# Altium integrated library Analog Devices Data Converters Digital-to-Analog Converters.IntLib: 2231 symbols (part 56 of 181)
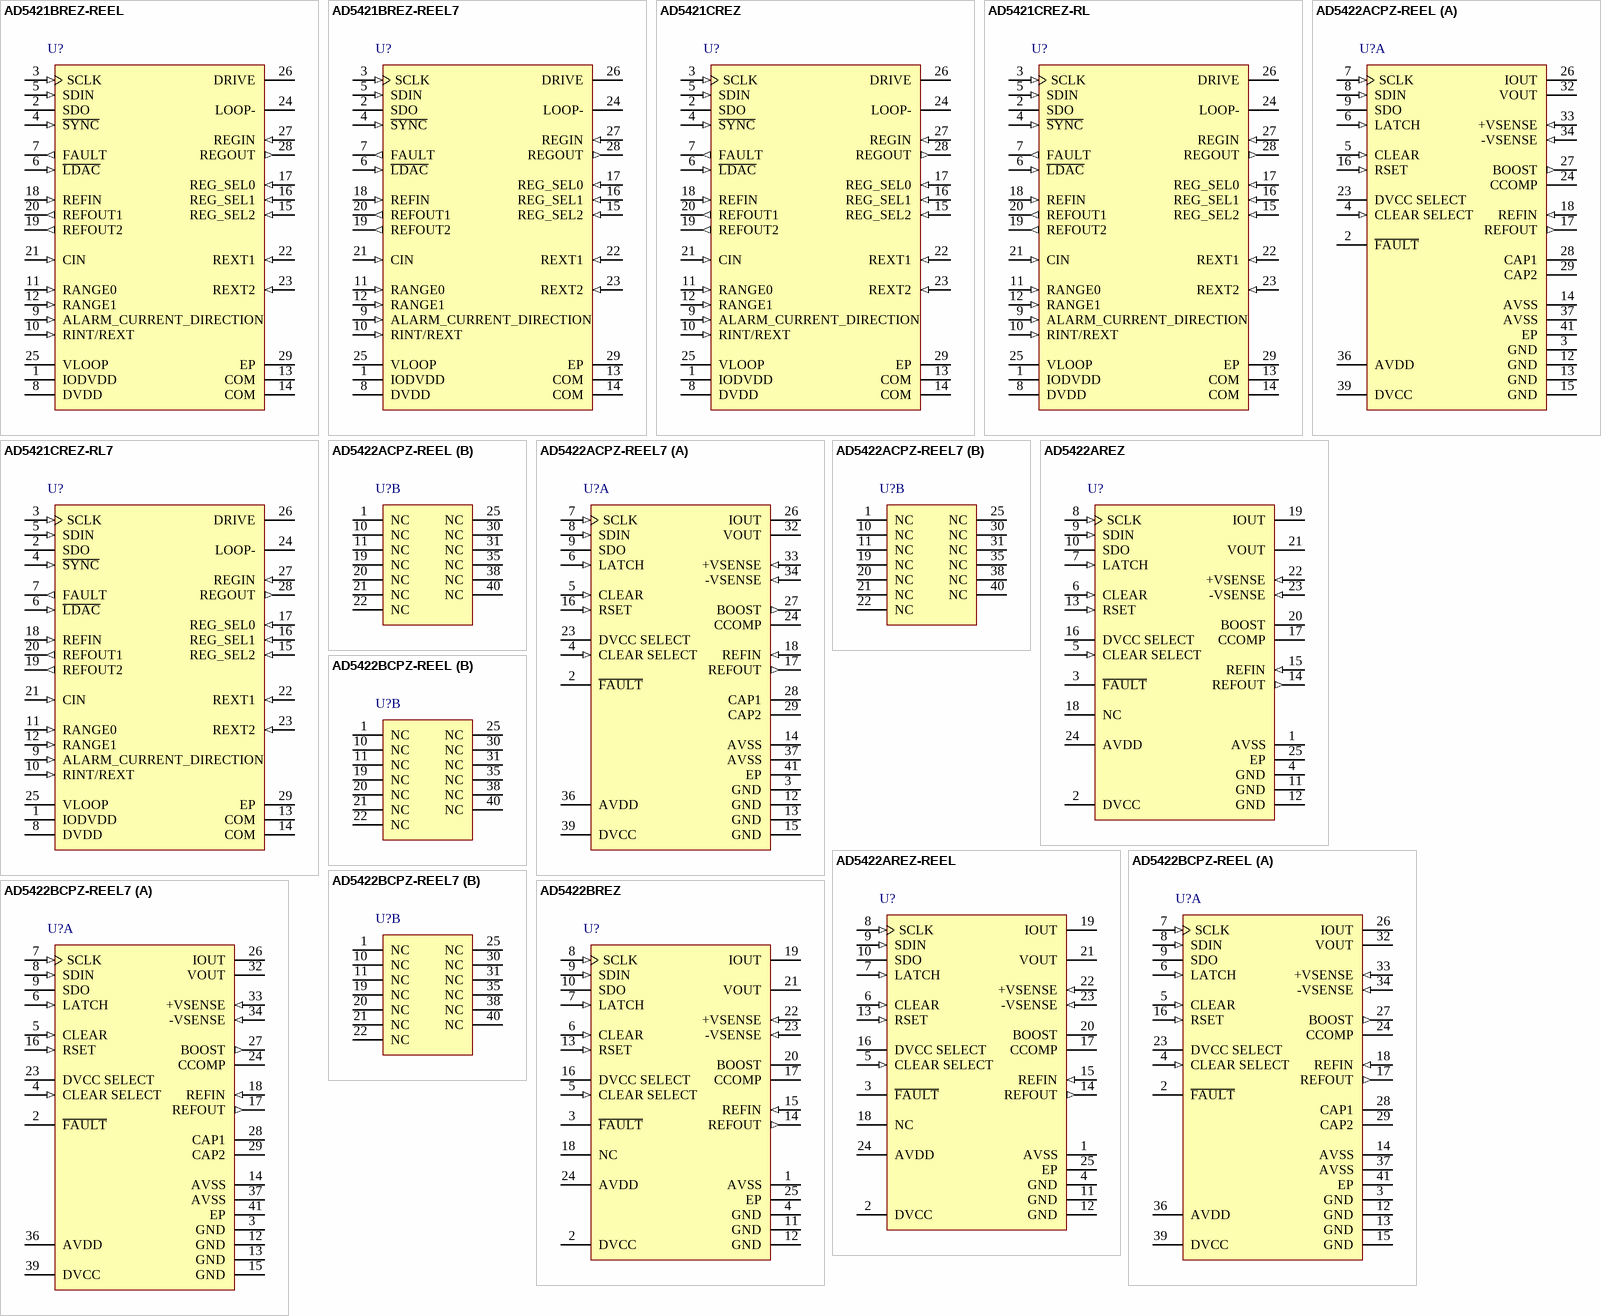
[diagram p169: symbols AD5421BREZ-REEL to AD5422BREZ]

## AD5421CREZ-RL7
designator U?
Single 16-Bit Loop-Powered Digital-to-Analog Converter with Serial Interface, 4 to 20 mA, -40 to +105 degC, RE-28-2, Pb-Free, Reel; Generic Part Number: AD5421; Manufacturer: Analog Devices; PartNumber: AD5421CREZ-RL7; # DAC Outputs: 1; Max V+: 52V; Op Pwr Diss: 1.43mW; Resolution (Bits): 16; Settling Time: 50µs; Single Supply: Yes; DatasheetVersion: Rev.D; PackageVersion: May-2006; PackageReference: RE-28-2; PackageDescription: 28-Lead Thin Shrink Small Outline with Exposed Pad [TSSOP_EP]; Supplier 1: Digi-Key; Supplier Part Number 1: AD5421CREZ-RL7-ND; Supplier 2: Mouser; Supplier Part Number 2: 584-AD5421CREZ-R7; Packing: Reel; RoHS: Y; Mounting Technology: Surface Mount; Code_JEDEC: MO-153-AET; ComponentLink1Description: Manufacturer URL; ComponentLink1URL: http://www.analog.com/en/index.html; ComponentLink2Description: Datasheet; ComponentLink2URL: http://www.analog.com/static/imported-files/data_sheets/AD5421.pdf; ComponentLink3Description: Package Specification; ComponentLink3URL: http://www.analog.com/static/imported-files/packages/PKG_PDF/TSSOP_EP(RE)/RE_28_2.pdf; ComponentLink4Description: Product URL; ComponentLink4URL: http://www.analog.com/en/digital-to-analog-converters/da-converters/ad5421/products/product.html
footprint RE-28-2_N (TSOP, 28-Leads, Body 9.7x4.4mm, Pitch 0.65mm, Thermal Pad 5.5x3.0mm, IPC Medium Density)
footprint RE-28-2_L (TSOP, 28-Leads, Body 9.7x4.4mm, Pitch 0.65mm, Thermal Pad 5.5x3.0mm, IPC High Density)
footprint RE-28-2_M (TSOP, 28-Leads, Body 9.7x4.4mm, Pitch 0.65mm, Thermal Pad 5.5x3.0mm, IPC Low Density)
pins: 1 IODVDD (power) "Digital Interface Supply Pin. Digital thresholds are referenced to the voltage applied to this pin. A voltage from 1.71 V to 5.5 V can be applied to this pin.", 2 SDO (hiz) "Serial Data Output. Used to clock data from the input shift register. Data is clocked out on the rising edge of SCLK and is valid on the falling edge of SCLK.", 3 SCLK (in) "Serial Clock Input. Data is clocked into the input shift register on the falling edge of SCLK. This input operates at clock speeds up to 30 MHz.", 4 ~{SYNC} (in) "Frame Synchronization Input, Active Low. This is the frame synchronization signal for the serial interface. When S\Y\N\C\ is low, data is transferred on the falling edge of SCLK. The input shift register data is latched on (See Datasheet)", 5 SDIN (in) "Serial Data Input. Data must be valid on the falling edge of SCLK.", 6 ~{LDAC} (in) "Load DAC Input, Active Low. This pin is used to update the DAC register and, consequently, the output current. If L\D\A\C\ is tied permanently low, the DAC register is updated on the rising edge of S\Y\N\C\. If L\D\A\C\ is (See Datasheet)", 7 FAULT (out) "Fault Alert Output Pin, Active High. This pin is asserted high when a fault is detected. Detectable faults are loss of SPI interface control, communication error (PEC), loop current out of range, insufficient loop voltage, (See Datasheet)", 8 DVDD (power) "3.3 V Digital Power Supply Output. This pin should be decoupled to COM with 100 nF and 4.7 uF capacitors.", 9 ALARM_CURRENT_DIRECTION (in) "Alarm Current Direction Select. This pin is used to select whether the alarm current is upscale (22.8 mA/24 mA) or downscale (3.2 mA). Connecting this pin to DVDD selects an upscale alarm current (22.8 mA/24 mA); connecting (See Datasheet)", 10 RINT/REXT (in) "Current Setting Resistor Select. When this pin is connected to DVDD, the internal current setting resistor is selected. When this pin is connected to COM, the external current setting resistor is selected. An external (See Datasheet)", 11 RANGE0 (in) "Digital Input Pins. These two pins select the loop current range (see the Loop Current Range Selection section).", 12 RANGE1 (in) "Digital Input Pins. These two pins select the loop current range (see the Loop Current Range Selection section).", 13 COM (power) "Ground Reference Pin for the AD5421. It is recommended that a 4.7 V Zener diode be placed between the LOOP- and COM pins. See the Applications Information section for more information.", 14 COM (power) "Ground Reference Pin for the AD5421. It is recommended that a 4.7 V Zener diode be placed between the LOOP- and COM pins. See the Applications Information section for more information.", 15 REG_SEL2 (in) "These three pins together select the regulator output (REGOUT) voltage (see the Voltage Regulator section).", 16 REG_SEL1 (in) "These three pins together select the regulator output (REGOUT) voltage (see the Voltage Regulator section).", 17 REG_SEL0 (in) "These three pins together select the regulator output (REGOUT) voltage (see the Voltage Regulator section).", 18 REFIN (in) "Reference Voltage Input. VREFIN = 2.5 V for specified performance.", 19 REFOUT2 (out) "Internal Reference Voltage Output (1.22 V). It is recommended to connect a 100 nF capacitor from this pin to COM.", 20 REFOUT1 (out) "Internal Reference Voltage Output (2.5 V). It is recommended to connect a 100 nF capacitor from this pin to COM.", 21 CIN (in) "External Capacitor Connection and HART FSK Input. An external capacitor connected from CIN to COM implements an output slew rate control function (see the Loop Current Slew Rate Control section). HART FSK signaling can also (See Datasheet)", 22 REXT1 (in) "Connection for External Current Setting Resistor. A precision 24 k ohm resistor can be connected between these pins for improved performance.", 23 REXT2 (in) "Connection for External Current Setting Resistor. A precision 24 k ohm resistor can be connected between these pins for improved performance.", 24 LOOP- "Loop Current Return Pin.", 25 VLOOP (power) "Voltage Input Pin. Voltage input range is 0 V to 2.5 V. The voltage applied to this pin is digitized to eight bits, which are available in the fault register. This pin can be used for general-purpose voltage monitoring, but (See Datasheet)", 26 DRIVE "Gate Connection for External Depletion Mode MOSFET. For more information, see the Connection to Loop Power Supply section.", 27 REGIN (in) "Voltage Regulator Input. The loop voltage can be connected directly to this pin. Or, to reduce on-chip power dissipation, an external pass transistor can be connected at this pin to stand off the loop voltage. For more (See Datasheet)", 28 REGOUT (out) "Voltage Regulator Output. Pin selectable values are from 1.8 V to 12 V via the REG_SEL0, REG_SEL1, and REG_SEL2 pins (see the Voltage Regulator section).", 29 EP (power) "The exposed paddle should be connected to the same potential as the COM pin and to a copper plane for optimum thermal performance."

## AD5422ACPZ-REEL
designator U?
Single 16-Bit Current Source Digital-to-Analog Converter with Serial Interface and HART Connectivity, -40 to +85 degC, CP-40-1, Pb-Free, Reel; Generic Part Number: AD5422; Manufacturer: Analog Devices; PartNumber: AD5422ACPZ-REEL; # DAC Outputs: 1; Max V+: 40V; Op Pwr Diss: 158mW; Resolution (Bits): 16; Settling Time: 18µs; Single Supply: No; DatasheetVersion: Rev.E; PackageVersion: Oct-2006; PackageReference: CP-40-1; PackageDescription: 40-Pin Lead Frame Chip Scale Package [LFCSP_VQ] Very Thin Quad; Supplier 1: Digi-Key; Supplier Part Number 1: AD5422ACPZ-REELTR-ND; Supplier 2: Digi-Key; Supplier Part Number 2: AD5422ACPZ-REELCT-ND; Supplier 3: Digi-Key; Supplier Part Number 3: AD5422ACPZ-REELDKR-ND; Supplier 4: Mouser; Supplier Part Number 4: 584-AD5422ACPZ-R; Packing: Reel; RoHS: Y; Mounting Technology: Surface Mount; Code_JEDEC: MO-220-VJJD-2; ComponentLink1Description: Manufacturer URL; ComponentLink1URL: http://www.analog.com/en/index.html; ComponentLink2Description: Datasheet; ComponentLink2URL: http://www.analog.com/static/imported-files/data_sheets/AD5412_5422.pdf; ComponentLink3Description: Package Specification; ComponentLink3URL: http://www.analog.com/static/imported-files/packages/PKG_PDF/LFCSP(CP)/CP_40_1.pdf; ComponentLink4Description: Product URL; ComponentLink4URL: http://www.analog.com/en/digital-to-analog-converters/da-converters/ad5422/products/product.html; ComponentLink5Description: Reference Design URL; ComponentLink5URL: http://www.analog.com/en/digital-to-analog-converters/da-converters/ad5422/products/product.html#prod_cross_sell
footprint CP-40-1_N (QFN, 40-Leads, Body 6x6mm, Pitch 0.5mm, Thermal Pad 4.3x4.3mm, IPC Medium Density)
footprint CP-40-1_L (QFN, 40-Leads, Body 6x6mm, Pitch 0.5mm, Thermal Pad 4.3x4.3mm, IPC High Density)
footprint CP-40-1_M (QFN, 40-Leads, Body 6x6mm, Pitch 0.5mm, Thermal Pad 4.3x4.3mm, IPC Low Density)
part A pins: 2 ~{FAULT} (oc) "Fault Alert. This pin is asserted low when an open circuit is detected in current mode or an overtemperature is detected. Open drain output must be connected to a pull-up resistor.", 3 GND (power) "These pins must be connected to 0 V.", 4 CLEAR SELECT (in) "Selects the voltage output clear value, either zero-scale or midscale code (see Table 21).", 5 CLEAR (in) "Active High Input. Asserting this pin sets the current output to the bottom of the selected range or sets the voltage output to the user selected value (zero-scale or midscale).", 6 LATCH (in) "Positive Edge Sensitive Latch. A rising LATCH edge parallel loads the input shift register data into the DAC register, also updating the output.", 7 SCLK (in) "Serial Clock Input. Data is clocked into the shift register on the rising edge of SCLK. This operates at clock speeds of up to 30 MHz.", 8 SDIN (in) "Serial Data Input. Data must be valid on the rising edge of SCLK.", 9 SDO (hiz) "Serial Data Output. Used to clock data from the serial register in daisy-chain or readback mode. Data is valid on the rising edge of SCLK (see Figure 3 and Figure 4).", 12 GND (power) "Ground Reference Pin.", 13 GND (power) "Ground Reference Pin.", 14 AVSS (power) "Negative Analog Supply Pin. Voltage ranges from -3 V to -24 V. This pin can be connected to 0 V if the output voltage range is unipolar.", 15 GND (power) "These pins must be connected to 0 V.", 16 RSET (in) "An external, precision, low drift 15 kohm current setting resistor can be connected to this pin to improve the IOUT temperature drift performance. See the AD5422 Features section.", 17 REFOUT (out) "Internal Reference Voltage Output. REFOUT = 5 V +/- 2 mV.", 18 REFIN (in) "External Reference Voltage Input. Reference input range is 4 V to 5 V. REFIN = 5 V for a specified performance.", 23 DVCC SELECT "When connected to GND, this pin disables the internal supply, and an external supply must be connected to the DVCC pin. Leave this pin unconnected to enable the internal supply. See the AD5422 Features section.", 24 CCOMP "Optional compensation capacitor connection for the voltage output buffer. Connecting a 4 nF capacitor between this pin and the VOUT pin allows the voltage output to drive up to 1 uF. It should be noted that the addition of (See Datasheet)", 26 IOUT (hiz) "Current Output Pin.", 27 BOOST (out) "Optional External Transistor Connection. Connecting an external transistor reduces the power dissipated in the AD5422. See the AD5422 Features section.", 28 CAP1 "Connection for Optional Output Filtering Capacitor. See the AD5422 Features section.", 29 CAP2 "Connection for Optional Output Filtering Capacitor. See the AD5422 Features section.", 32 VOUT (hiz) "Buffered Analog Output Voltage. The output amplifier is capable of directly driving a 1 k ohm, 2000 pF load.", 33 +VSENSE (in) "Sense connection for the positive voltage output load connection.", 34 -VSENSE (in) "Sense connection for the negative voltage output load connection.", 36 AVDD (power) "Positive Analog Supply Pin. Voltage ranges from 10.8 V to 60 V.", 37 AVSS (power) "Negative Analog Supply Pin. Voltage ranges from -3 V to -24 V. This pin can be connected to 0 V if the output voltage range is unipolar.", 39 DVCC (power) "Digital Supply Pin. Voltage ranges from 2.7 V to 5.5 V. This pin can also be configured as a 4.5 V LDO output by leaving the DVCC SELECT pin floating.", 41 EP (power) "Negative Analog Supply Pin. Voltage ranges from -3 V to -24 V. This paddle can be  connected to 0 V if the output voltage range is unipolar. The paddle can be left  electrically unconnected provided that a supply connection (See Datasheet)"
part B pins: 1 NC "No Connection. Do not connect to these pins.", 10 NC "No Connection. Do not connect to these pins.", 11 NC "No Connection. Do not connect to these pins.", 19 NC "No Connection. Do not connect to these pins.", 20 NC "No Connection. Do not connect to these pins.", 21 NC "No Connection. Do not connect to these pins.", 22 NC "No Connection. Do not connect to these pins.", 25 NC "No Connection. Do not connect to these pins.", 30 NC "No Connection. Do not connect to these pins.", 31 NC "No Connection. Do not connect to these pins.", 35 NC "No Connection. Do not connect to these pins.", 38 NC "No Connection. Do not connect to these pins.", 40 NC "No Connection. Do not connect to these pins."

## AD5422ACPZ-REEL7
designator U?
Single 16-Bit Current Source Digital-to-Analog Converter with Serial Interface and HART Connectivity, -40 to +85 degC, CP-40-1, Pb-Free, Reel; Generic Part Number: AD5422; Manufacturer: Analog Devices; PartNumber: AD5422ACPZ-REEL7; # DAC Outputs: 1; Max V+: 40V; Op Pwr Diss: 158mW; Resolution (Bits): 16; Settling Time: 18µs; Single Supply: No; DatasheetVersion: Rev.E; PackageVersion: Oct-2006; PackageReference: CP-40-1; PackageDescription: 40-Pin Lead Frame Chip Scale Package [LFCSP_VQ] Very Thin Quad; Supplier 1: Digi-Key; Supplier Part Number 1: AD5422ACPZ-REEL7TR-ND; Supplier 2: Digi-Key; Supplier Part Number 2: AD5422ACPZ-REEL7CT-ND; Supplier 3: Digi-Key; Supplier Part Number 3: AD5422ACPZ-REEL7DKR-ND; Supplier 4: Mouser; Supplier Part Number 4: 584-AD5422ACPZ-R7; Packing: Reel; RoHS: Y; Mounting Technology: Surface Mount; Code_JEDEC: MO-220-VJJD-2; ComponentLink1Description: Manufacturer URL; ComponentLink1URL: http://www.analog.com/en/index.html; ComponentLink2Description: Datasheet; ComponentLink2URL: http://www.analog.com/static/imported-files/data_sheets/AD5412_5422.pdf; ComponentLink3Description: Package Specification; ComponentLink3URL: http://www.analog.com/static/imported-files/packages/PKG_PDF/LFCSP(CP)/CP_40_1.pdf; ComponentLink4Description: Product URL; ComponentLink4URL: http://www.analog.com/en/digital-to-analog-converters/da-converters/ad5422/products/product.html; ComponentLink5Description: Reference Design URL; ComponentLink5URL: http://www.analog.com/en/digital-to-analog-converters/da-converters/ad5422/products/product.html#prod_cross_sell
footprint CP-40-1_N (QFN, 40-Leads, Body 6x6mm, Pitch 0.5mm, Thermal Pad 4.3x4.3mm, IPC Medium Density)
footprint CP-40-1_L (QFN, 40-Leads, Body 6x6mm, Pitch 0.5mm, Thermal Pad 4.3x4.3mm, IPC High Density)
footprint CP-40-1_M (QFN, 40-Leads, Body 6x6mm, Pitch 0.5mm, Thermal Pad 4.3x4.3mm, IPC Low Density)
part A pins: 2 ~{FAULT} (oc) "Fault Alert. This pin is asserted low when an open circuit is detected in current mode or an overtemperature is detected. Open drain output must be connected to a pull-up resistor.", 3 GND (power) "These pins must be connected to 0 V.", 4 CLEAR SELECT (in) "Selects the voltage output clear value, either zero-scale or midscale code (see Table 21).", 5 CLEAR (in) "Active High Input. Asserting this pin sets the current output to the bottom of the selected range or sets the voltage output to the user selected value (zero-scale or midscale).", 6 LATCH (in) "Positive Edge Sensitive Latch. A rising LATCH edge parallel loads the input shift register data into the DAC register, also updating the output.", 7 SCLK (in) "Serial Clock Input. Data is clocked into the shift register on the rising edge of SCLK. This operates at clock speeds of up to 30 MHz.", 8 SDIN (in) "Serial Data Input. Data must be valid on the rising edge of SCLK.", 9 SDO (hiz) "Serial Data Output. Used to clock data from the serial register in daisy-chain or readback mode. Data is valid on the rising edge of SCLK (see Figure 3 and Figure 4).", 12 GND (power) "Ground Reference Pin.", 13 GND (power) "Ground Reference Pin.", 14 AVSS (power) "Negative Analog Supply Pin. Voltage ranges from -3 V to -24 V. This pin can be connected to 0 V if the output voltage range is unipolar.", 15 GND (power) "These pins must be connected to 0 V.", 16 RSET (in) "An external, precision, low drift 15 kohm current setting resistor can be connected to this pin to improve the IOUT temperature drift performance. See the AD5422 Features section.", 17 REFOUT (out) "Internal Reference Voltage Output. REFOUT = 5 V +/- 2 mV.", 18 REFIN (in) "External Reference Voltage Input. Reference input range is 4 V to 5 V. REFIN = 5 V for a specified performance.", 23 DVCC SELECT "When connected to GND, this pin disables the internal supply, and an external supply must be connected to the DVCC pin. Leave this pin unconnected to enable the internal supply. See the AD5422 Features section.", 24 CCOMP "Optional compensation capacitor connection for the voltage output buffer. Connecting a 4 nF capacitor between this pin and the VOUT pin allows the voltage output to drive up to 1 uF. It should be noted that the addition of (See Datasheet)", 26 IOUT (hiz) "Current Output Pin.", 27 BOOST (out) "Optional External Transistor Connection. Connecting an external transistor reduces the power dissipated in the AD5422. See the AD5422 Features section.", 28 CAP1 "Connection for Optional Output Filtering Capacitor. See the AD5422 Features section.", 29 CAP2 "Connection for Optional Output Filtering Capacitor. See the AD5422 Features section.", 32 VOUT (hiz) "Buffered Analog Output Voltage. The output amplifier is capable of directly driving a 1 k ohm, 2000 pF load.", 33 +VSENSE (in) "Sense connection for the positive voltage output load connection.", 34 -VSENSE (in) "Sense connection for the negative voltage output load connection.", 36 AVDD (power) "Positive Analog Supply Pin. Voltage ranges from 10.8 V to 60 V.", 37 AVSS (power) "Negative Analog Supply Pin. Voltage ranges from -3 V to -24 V. This pin can be connected to 0 V if the output voltage range is unipolar.", 39 DVCC (power) "Digital Supply Pin. Voltage ranges from 2.7 V to 5.5 V. This pin can also be configured as a 4.5 V LDO output by leaving the DVCC SELECT pin floating.", 41 EP (power) "Negative Analog Supply Pin. Voltage ranges from -3 V to -24 V. This paddle can be  connected to 0 V if the output voltage range is unipolar. The paddle can be left  electrically unconnected provided that a supply connection (See Datasheet)"
part B pins: 1 NC "No Connection. Do not connect to these pins.", 10 NC "No Connection. Do not connect to these pins.", 11 NC "No Connection. Do not connect to these pins.", 19 NC "No Connection. Do not connect to these pins.", 20 NC "No Connection. Do not connect to these pins.", 21 NC "No Connection. Do not connect to these pins.", 22 NC "No Connection. Do not connect to these pins.", 25 NC "No Connection. Do not connect to these pins.", 30 NC "No Connection. Do not connect to these pins.", 31 NC "No Connection. Do not connect to these pins.", 35 NC "No Connection. Do not connect to these pins.", 38 NC "No Connection. Do not connect to these pins.", 40 NC "No Connection. Do not connect to these pins."

## AD5422AREZ
designator U?
Single 16-Bit Current Source Digital-to-Analog Converter with Serial Interface and HART Connectivity, -40 to +85 degC, RE-24, Pb-Free, Tube; Generic Part Number: AD5422; Manufacturer: Analog Devices; PartNumber: AD5422AREZ; # DAC Outputs: 1; Max V+: 40V; Op Pwr Diss: 158mW; Resolution (Bits): 16; Settling Time: 18µs; Single Supply: No; DatasheetVersion: Rev.E; PackageVersion: 050806-A; PackageReference: RE-24; PackageDescription: 24-Lead Thin Shrink Small Outline Package, Exposed Pad [TSSOP_EP]; Supplier 1: Digi-Key; Supplier Part Number 1: AD5422AREZ-ND; Supplier 2: Farnell; Supplier Part Number 2: 1827278; Supplier 3: Newark; Supplier Part Number 3: 51R0712; Supplier 4: Mouser; Supplier Part Number 4: 584-AD5422AREZ; Packing: Tube; RoHS: Y; Mounting Technology: Surface Mount; Code_JEDEC: MO-153-ADT; ComponentLink1Description: Manufacturer URL; ComponentLink1URL: http://www.analog.com/en/index.html; ComponentLink2Description: Datasheet; ComponentLink2URL: http://www.analog.com/static/imported-files/data_sheets/AD5412_5422.pdf; ComponentLink3Description: Package Specification; ComponentLink3URL: http://www.analog.com/static/imported-files/packages/PKG_PDF/TSSOP_EP(RE)/RE_24.pdf; ComponentLink4Description: Product URL; ComponentLink4URL: http://www.analog.com/en/digital-to-analog-converters/da-converters/ad5422/products/product.html; ComponentLink5Description: Reference Design URL; ComponentLink5URL: http://www.analog.com/en/digital-to-analog-converters/da-converters/ad5422/products/product.html#prod_cross_sell
footprint RE-24_N (TSOP, 24-Leads, Body 7.8x4.4mm, Pitch 0.65mm, Thermal pad 5.02x3.25 mm, IPC Medium Density)
footprint RE-24_L (TSOP, 24-Leads, Body 7.8x4.4mm, Pitch 0.65mm, Thermal pad 5.02x3.25 mm, IPC High Density)
footprint RE-24_M (TSOP, 24-Leads, Body 7.8x4.4mm, Pitch 0.65mm, Thermal pad 5.02x3.25 mm, IPC Low Density)
pins: 1 AVSS (power) "Negative Analog Supply Pin. Voltage ranges from -3 V to -24 V. This pin can be connected to 0 V if the output voltage range is unipolar.", 2 DVCC (power) "Digital Supply Pin. Voltage ranges from 2.7 V to 5.5 V.This pin can also be configured as a 4.5 V LDO output by leaving the DVCC SELECT pin floating.", 3 ~{FAULT} (oc) "Fault Alert. This pin is asserted low when an open circuit is detected in current mode or an overtemperature is detected. Open drain output must be connected to a pull-up resistor.", 4 GND (power) "This pin must be connected to 0 V.", 5 CLEAR SELECT (in) "Selects the voltage output clear value, either zero-scale or midscale code (see Table 21).", 6 CLEAR (in) "Active High Input. Asserting this pin sets the current output to the bottom of the selected range or sets the voltage output to the user selected value (zero-scale or midscale).", 7 LATCH (in) "Positive Edge Sensitive Latch. A rising LATCH edge parallel loads the input shift register data into the DAC register, also updating the output.", 8 SCLK (in) "Serial Clock Input. Data is clocked into the shift register on the rising edge of SCLK. This operates at clock speeds of up to 30 MHz.", 9 SDIN (in) "Serial Data Input. Data must be valid on the rising edge of SCLK.", 10 SDO (hiz) "Serial Data Output. Used to clock data from the serial register in daisy-chain or readback mode. Data is valid on the rising edge of SCLK (see Figure 3 and Figure 4).", 11 GND (power) "Ground Reference Pin.", 12 GND (power) "This pin must be connected to 0 V.", 13 RSET (in) "An external, precision, low drift 15 kohm current setting resistor can be connected to this pin to improve the IOUT temperature drift performance. See the AD5422 Features section.", 14 REFOUT (out) "Internal Reference Voltage Output. REFOUT = 5 V +/- 2 mV.", 15 REFIN (in) "External Reference Voltage Input. Reference input range is 4 V to 5 V. REFIN = 5 V for a specified performance.", 16 DVCC SELECT "When connected to GND, this pin disables the internal supply, and an external supply must be connected to the DVCC pin. Leave this pin unconnected to enable the internal supply. See the AD5422 Features section.", 17 CCOMP "Optional compensation capacitor connection for the voltage output buffer. Connecting a 4 nF capacitor between this pin and the VOUT pin allows the voltage output to drive up to 1 µF. It should be noted that the addition of (See Datasheet)", 18 NC "No Connection. Do not connect to these pins.", 19 IOUT (hiz) "Current Output Pin.", 20 BOOST "Optional External Transistor Connection. Connecting an external transistor reduces the power dissipated in the AD5422. See the AD5422 Features section.", 21 VOUT (hiz) "Buffered Analog Output Voltage. The output amplifier is capable of directly driving a 1 k ohm, 2000 pF load.", 22 +VSENSE (in) "Sense connection for the positive voltage output load connection.", 23 -VSENSE (in) "Sense connection for the negative voltage output load connection.", 24 AVDD (power) "Positive Analog Supply Pin. Voltage ranges from 10.8 V to 60 V.", 25 EP "Negative Analog Supply Pin. Voltage ranges from -3 V to -24 V. This paddle can be connected to 0 V if the output voltage range is unipolar. The paddle can be left electrically unconnected provided that a supply connection is (See Datasheet)"

## AD5422AREZ-REEL
designator U?
Single 16-Bit Current Source Digital-to-Analog Converter with Serial Interface and HART Connectivity, -40 to +85 degC, RE-24, Pb-Free, Reel; Generic Part Number: AD5422; Manufacturer: Analog Devices; PartNumber: AD5422AREZ-REEL; # DAC Outputs: 1; Max V+: 40V; Op Pwr Diss: 158mW; Resolution (Bits): 16; Settling Time: 18µs; Single Supply: No; DatasheetVersion: Rev.E; PackageVersion: 050806-A; PackageReference: RE-24; PackageDescription: 24-Lead Thin Shrink Small Outline Package, Exposed Pad [TSSOP_EP]; Supplier 1: Digi-Key; Supplier Part Number 1: AD5422AREZ-REEL-ND; Supplier 2: Mouser; Supplier Part Number 2: 584-AD5422AREZ-R; Packing: Reel; RoHS: Y; Mounting Technology: Surface Mount; Code_JEDEC: MO-153-ADT; ComponentLink1Description: Manufacturer URL; ComponentLink1URL: http://www.analog.com/en/index.html; ComponentLink2Description: Datasheet; ComponentLink2URL: http://www.analog.com/static/imported-files/data_sheets/AD5412_5422.pdf; ComponentLink3Description: Package Specification; ComponentLink3URL: http://www.analog.com/static/imported-files/packages/PKG_PDF/TSSOP_EP(RE)/RE_24.pdf; ComponentLink4Description: Product URL; ComponentLink4URL: http://www.analog.com/en/digital-to-analog-converters/da-converters/ad5422/products/product.html; ComponentLink5Description: Reference Design URL; ComponentLink5URL: http://www.analog.com/en/digital-to-analog-converters/da-converters/ad5422/products/product.html#prod_cross_sell
footprint RE-24_N (TSOP, 24-Leads, Body 7.8x4.4mm, Pitch 0.65mm, Thermal pad 5.02x3.25 mm, IPC Medium Density)
footprint RE-24_L (TSOP, 24-Leads, Body 7.8x4.4mm, Pitch 0.65mm, Thermal pad 5.02x3.25 mm, IPC High Density)
footprint RE-24_M (TSOP, 24-Leads, Body 7.8x4.4mm, Pitch 0.65mm, Thermal pad 5.02x3.25 mm, IPC Low Density)
pins: 1 AVSS (power) "Negative Analog Supply Pin. Voltage ranges from -3 V to -24 V. This pin can be connected to 0 V if the output voltage range is unipolar.", 2 DVCC (power) "Digital Supply Pin. Voltage ranges from 2.7 V to 5.5 V.This pin can also be configured as a 4.5 V LDO output by leaving the DVCC SELECT pin floating.", 3 ~{FAULT} (oc) "Fault Alert. This pin is asserted low when an open circuit is detected in current mode or an overtemperature is detected. Open drain output must be connected to a pull-up resistor.", 4 GND (power) "This pin must be connected to 0 V.", 5 CLEAR SELECT (in) "Selects the voltage output clear value, either zero-scale or midscale code (see Table 21).", 6 CLEAR (in) "Active High Input. Asserting this pin sets the current output to the bottom of the selected range or sets the voltage output to the user selected value (zero-scale or midscale).", 7 LATCH (in) "Positive Edge Sensitive Latch. A rising LATCH edge parallel loads the input shift register data into the DAC register, also updating the output.", 8 SCLK (in) "Serial Clock Input. Data is clocked into the shift register on the rising edge of SCLK. This operates at clock speeds of up to 30 MHz.", 9 SDIN (in) "Serial Data Input. Data must be valid on the rising edge of SCLK.", 10 SDO (hiz) "Serial Data Output. Used to clock data from the serial register in daisy-chain or readback mode. Data is valid on the rising edge of SCLK (see Figure 3 and Figure 4).", 11 GND (power) "Ground Reference Pin.", 12 GND (power) "This pin must be connected to 0 V.", 13 RSET (in) "An external, precision, low drift 15 kohm current setting resistor can be connected to this pin to improve the IOUT temperature drift performance. See the AD5422 Features section.", 14 REFOUT (out) "Internal Reference Voltage Output. REFOUT = 5 V +/- 2 mV.", 15 REFIN (in) "External Reference Voltage Input. Reference input range is 4 V to 5 V. REFIN = 5 V for a specified performance.", 16 DVCC SELECT "When connected to GND, this pin disables the internal supply, and an external supply must be connected to the DVCC pin. Leave this pin unconnected to enable the internal supply. See the AD5422 Features section.", 17 CCOMP "Optional compensation capacitor connection for the voltage output buffer. Connecting a 4 nF capacitor between this pin and the VOUT pin allows the voltage output to drive up to 1 µF. It should be noted that the addition of (See Datasheet)", 18 NC "No Connection. Do not connect to these pins.", 19 IOUT (hiz) "Current Output Pin.", 20 BOOST "Optional External Transistor Connection. Connecting an external transistor reduces the power dissipated in the AD5422. See the AD5422 Features section.", 21 VOUT (hiz) "Buffered Analog Output Voltage. The output amplifier is capable of directly driving a 1 k ohm, 2000 pF load.", 22 +VSENSE (in) "Sense connection for the positive voltage output load connection.", 23 -VSENSE (in) "Sense connection for the negative voltage output load connection.", 24 AVDD (power) "Positive Analog Supply Pin. Voltage ranges from 10.8 V to 60 V.", 25 EP "Negative Analog Supply Pin. Voltage ranges from -3 V to -24 V. This paddle can be connected to 0 V if the output voltage range is unipolar. The paddle can be left electrically unconnected provided that a supply connection is (See Datasheet)"

## AD5422BCPZ-REEL
designator U?
Single 16-Bit Current Source Digital-to-Analog Converter with Serial Interface and HART Connectivity, -40 to +85 degC, CP-40-1, Pb-Free, Reel; Generic Part Number: AD5422; Manufacturer: Analog Devices; PartNumber: AD5422BCPZ-REEL; # DAC Outputs: 1; Max V+: 40V; Op Pwr Diss: 158mW; Resolution (Bits): 16; Settling Time: 18µs; Single Supply: No; DatasheetVersion: Rev.E; PackageVersion: Oct-2006; PackageReference: CP-40-1; PackageDescription: 40-Pin Lead Frame Chip Scale Package [LFCSP_VQ] Very Thin Quad; Supplier 1: Digi-Key; Supplier Part Number 1: AD5422BCPZ-REELTR-ND; Supplier 2: Digi-Key; Supplier Part Number 2: AD5422BCPZ-REELCT-ND; Supplier 3: Digi-Key; Supplier Part Number 3: AD5422BCPZ-REELDKR-ND; Supplier 4: Newark; Supplier Part Number 4: 51R0714; Supplier 5: Mouser; Supplier Part Number 5: 584-AD5422BCPZ-R; Packing: Reel; RoHS: Y; Mounting Technology: Surface Mount; Code_JEDEC: MO-220-VJJD-2; ComponentLink1Description: Manufacturer URL; ComponentLink1URL: http://www.analog.com/en/index.html; ComponentLink2Description: Datasheet; ComponentLink2URL: http://www.analog.com/static/imported-files/data_sheets/AD5412_5422.pdf; ComponentLink3Description: Package Specification; ComponentLink3URL: http://www.analog.com/static/imported-files/packages/PKG_PDF/LFCSP(CP)/CP_40_1.pdf; ComponentLink4Description: Product URL; ComponentLink4URL: http://www.analog.com/en/digital-to-analog-converters/da-converters/ad5422/products/product.html; ComponentLink5Description: Reference Design URL; ComponentLink5URL: http://www.analog.com/en/digital-to-analog-converters/da-converters/ad5422/products/product.html#prod_cross_sell
footprint CP-40-1_N (QFN, 40-Leads, Body 6x6mm, Pitch 0.5mm, Thermal Pad 4.3x4.3mm, IPC Medium Density)
footprint CP-40-1_L (QFN, 40-Leads, Body 6x6mm, Pitch 0.5mm, Thermal Pad 4.3x4.3mm, IPC High Density)
footprint CP-40-1_M (QFN, 40-Leads, Body 6x6mm, Pitch 0.5mm, Thermal Pad 4.3x4.3mm, IPC Low Density)
part A pins: 2 ~{FAULT} (oc) "Fault Alert. This pin is asserted low when an open circuit is detected in current mode or an overtemperature is detected. Open drain output must be connected to a pull-up resistor.", 3 GND (power) "These pins must be connected to 0 V.", 4 CLEAR SELECT (in) "Selects the voltage output clear value, either zero-scale or midscale code (see Table 21).", 5 CLEAR (in) "Active High Input. Asserting this pin sets the current output to the bottom of the selected range or sets the voltage output to the user selected value (zero-scale or midscale).", 6 LATCH (in) "Positive Edge Sensitive Latch. A rising LATCH edge parallel loads the input shift register data into the DAC register, also updating the output.", 7 SCLK (in) "Serial Clock Input. Data is clocked into the shift register on the rising edge of SCLK. This operates at clock speeds of up to 30 MHz.", 8 SDIN (in) "Serial Data Input. Data must be valid on the rising edge of SCLK.", 9 SDO (hiz) "Serial Data Output. Used to clock data from the serial register in daisy-chain or readback mode. Data is valid on the rising edge of SCLK (see Figure 3 and Figure 4).", 12 GND (power) "Ground Reference Pin.", 13 GND (power) "Ground Reference Pin.", 14 AVSS (power) "Negative Analog Supply Pin. Voltage ranges from -3 V to -24 V. This pin can be connected to 0 V if the output voltage range is unipolar.", 15 GND (power) "These pins must be connected to 0 V.", 16 RSET (in) "An external, precision, low drift 15 kohm current setting resistor can be connected to this pin to improve the IOUT temperature drift performance. See the AD5422 Features section.", 17 REFOUT (out) "Internal Reference Voltage Output. REFOUT = 5 V +/- 2 mV.", 18 REFIN (in) "External Reference Voltage Input. Reference input range is 4 V to 5 V. REFIN = 5 V for a specified performance.", 23 DVCC SELECT "When connected to GND, this pin disables the internal supply, and an external supply must be connected to the DVCC pin. Leave this pin unconnected to enable the internal supply. See the AD5422 Features section.", 24 CCOMP "Optional compensation capacitor connection for the voltage output buffer. Connecting a 4 nF capacitor between this pin and the VOUT pin allows the voltage output to drive up to 1 uF. It should be noted that the addition of (See Datasheet)", 26 IOUT (hiz) "Current Output Pin.", 27 BOOST (out) "Optional External Transistor Connection. Connecting an external transistor reduces the power dissipated in the AD5422. See the AD5422 Features section.", 28 CAP1 "Connection for Optional Output Filtering Capacitor. See the AD5422 Features section.", 29 CAP2 "Connection for Optional Output Filtering Capacitor. See the AD5422 Features section.", 32 VOUT (hiz) "Buffered Analog Output Voltage. The output amplifier is capable of directly driving a 1 k ohm, 2000 pF load.", 33 +VSENSE (in) "Sense connection for the positive voltage output load connection.", 34 -VSENSE (in) "Sense connection for the negative voltage output load connection.", 36 AVDD (power) "Positive Analog Supply Pin. Voltage ranges from 10.8 V to 60 V.", 37 AVSS (power) "Negative Analog Supply Pin. Voltage ranges from -3 V to -24 V. This pin can be connected to 0 V if the output voltage range is unipolar.", 39 DVCC (power) "Digital Supply Pin. Voltage ranges from 2.7 V to 5.5 V. This pin can also be configured as a 4.5 V LDO output by leaving the DVCC SELECT pin floating.", 41 EP (power) "Negative Analog Supply Pin. Voltage ranges from -3 V to -24 V. This paddle can be  connected to 0 V if the output voltage range is unipolar. The paddle can be left  electrically unconnected provided that a supply connection (See Datasheet)"
part B pins: 1 NC "No Connection. Do not connect to these pins.", 10 NC "No Connection. Do not connect to these pins.", 11 NC "No Connection. Do not connect to these pins.", 19 NC "No Connection. Do not connect to these pins.", 20 NC "No Connection. Do not connect to these pins.", 21 NC "No Connection. Do not connect to these pins.", 22 NC "No Connection. Do not connect to these pins.", 25 NC "No Connection. Do not connect to these pins.", 30 NC "No Connection. Do not connect to these pins.", 31 NC "No Connection. Do not connect to these pins.", 35 NC "No Connection. Do not connect to these pins.", 38 NC "No Connection. Do not connect to these pins.", 40 NC "No Connection. Do not connect to these pins."

## AD5422BCPZ-REEL7
designator U?
Single 16-Bit Current Source Digital-to-Analog Converter with Serial Interface and HART Connectivity, -40 to +85 degC, CP-40-1, Pb-Free, Reel; Generic Part Number: AD5422; Manufacturer: Analog Devices; PartNumber: AD5422BCPZ-REEL7; # DAC Outputs: 1; Max V+: 40V; Op Pwr Diss: 158mW; Resolution (Bits): 16; Settling Time: 18µs; Single Supply: No; DatasheetVersion: Rev.E; PackageVersion: Oct-2006; PackageReference: CP-40-1; PackageDescription: 40-Pin Lead Frame Chip Scale Package [LFCSP_VQ] Very Thin Quad; Supplier 1: Digi-Key; Supplier Part Number 1: AD5422BCPZ-REEL7TR-ND; Supplier 2: Digi-Key; Supplier Part Number 2: AD5422BCPZ-REEL7CT-ND; Supplier 3: Digi-Key; Supplier Part Number 3: AD5422BCPZ-REEL7DKR-ND; Supplier 4: Newark; Supplier Part Number 4: 51R0715; Supplier 5: Mouser; Supplier Part Number 5: 584-AD5422BCPZ-R7; Packing: Reel; RoHS: Y; Mounting Technology: Surface Mount; Code_JEDEC: MO-220-VJJD-2; ComponentLink1Description: Manufacturer URL; ComponentLink1URL: http://www.analog.com/en/index.html; ComponentLink2Description: Datasheet; ComponentLink2URL: http://www.analog.com/static/imported-files/data_sheets/AD5412_5422.pdf; ComponentLink3Description: Package Specification; ComponentLink3URL: http://www.analog.com/static/imported-files/packages/PKG_PDF/LFCSP(CP)/CP_40_1.pdf; ComponentLink4Description: Product URL; ComponentLink4URL: http://www.analog.com/en/digital-to-analog-converters/da-converters/ad5422/products/product.html; ComponentLink5Description: Reference Design URL; ComponentLink5URL: http://www.analog.com/en/digital-to-analog-converters/da-converters/ad5422/products/product.html#prod_cross_sell
footprint CP-40-1_N (QFN, 40-Leads, Body 6x6mm, Pitch 0.5mm, Thermal Pad 4.3x4.3mm, IPC Medium Density)
footprint CP-40-1_L (QFN, 40-Leads, Body 6x6mm, Pitch 0.5mm, Thermal Pad 4.3x4.3mm, IPC High Density)
footprint CP-40-1_M (QFN, 40-Leads, Body 6x6mm, Pitch 0.5mm, Thermal Pad 4.3x4.3mm, IPC Low Density)
part A pins: 2 ~{FAULT} (oc) "Fault Alert. This pin is asserted low when an open circuit is detected in current mode or an overtemperature is detected. Open drain output must be connected to a pull-up resistor.", 3 GND (power) "These pins must be connected to 0 V.", 4 CLEAR SELECT (in) "Selects the voltage output clear value, either zero-scale or midscale code (see Table 21).", 5 CLEAR (in) "Active High Input. Asserting this pin sets the current output to the bottom of the selected range or sets the voltage output to the user selected value (zero-scale or midscale).", 6 LATCH (in) "Positive Edge Sensitive Latch. A rising LATCH edge parallel loads the input shift register data into the DAC register, also updating the output.", 7 SCLK (in) "Serial Clock Input. Data is clocked into the shift register on the rising edge of SCLK. This operates at clock speeds of up to 30 MHz.", 8 SDIN (in) "Serial Data Input. Data must be valid on the rising edge of SCLK.", 9 SDO (hiz) "Serial Data Output. Used to clock data from the serial register in daisy-chain or readback mode. Data is valid on the rising edge of SCLK (see Figure 3 and Figure 4).", 12 GND (power) "Ground Reference Pin.", 13 GND (power) "Ground Reference Pin.", 14 AVSS (power) "Negative Analog Supply Pin. Voltage ranges from -3 V to -24 V. This pin can be connected to 0 V if the output voltage range is unipolar.", 15 GND (power) "These pins must be connected to 0 V.", 16 RSET (in) "An external, precision, low drift 15 kohm current setting resistor can be connected to this pin to improve the IOUT temperature drift performance. See the AD5422 Features section.", 17 REFOUT (out) "Internal Reference Voltage Output. REFOUT = 5 V +/- 2 mV.", 18 REFIN (in) "External Reference Voltage Input. Reference input range is 4 V to 5 V. REFIN = 5 V for a specified performance.", 23 DVCC SELECT "When connected to GND, this pin disables the internal supply, and an external supply must be connected to the DVCC pin. Leave this pin unconnected to enable the internal supply. See the AD5422 Features section.", 24 CCOMP "Optional compensation capacitor connection for the voltage output buffer. Connecting a 4 nF capacitor between this pin and the VOUT pin allows the voltage output to drive up to 1 uF. It should be noted that the addition of (See Datasheet)", 26 IOUT (hiz) "Current Output Pin.", 27 BOOST (out) "Optional External Transistor Connection. Connecting an external transistor reduces the power dissipated in the AD5422. See the AD5422 Features section.", 28 CAP1 "Connection for Optional Output Filtering Capacitor. See the AD5422 Features section.", 29 CAP2 "Connection for Optional Output Filtering Capacitor. See the AD5422 Features section.", 32 VOUT (hiz) "Buffered Analog Output Voltage. The output amplifier is capable of directly driving a 1 k ohm, 2000 pF load.", 33 +VSENSE (in) "Sense connection for the positive voltage output load connection.", 34 -VSENSE (in) "Sense connection for the negative voltage output load connection.", 36 AVDD (power) "Positive Analog Supply Pin. Voltage ranges from 10.8 V to 60 V.", 37 AVSS (power) "Negative Analog Supply Pin. Voltage ranges from -3 V to -24 V. This pin can be connected to 0 V if the output voltage range is unipolar.", 39 DVCC (power) "Digital Supply Pin. Voltage ranges from 2.7 V to 5.5 V. This pin can also be configured as a 4.5 V LDO output by leaving the DVCC SELECT pin floating.", 41 EP (power) "Negative Analog Supply Pin. Voltage ranges from -3 V to -24 V. This paddle can be  connected to 0 V if the output voltage range is unipolar. The paddle can be left  electrically unconnected provided that a supply connection (See Datasheet)"
part B pins: 1 NC "No Connection. Do not connect to these pins.", 10 NC "No Connection. Do not connect to these pins.", 11 NC "No Connection. Do not connect to these pins.", 19 NC "No Connection. Do not connect to these pins.", 20 NC "No Connection. Do not connect to these pins.", 21 NC "No Connection. Do not connect to these pins.", 22 NC "No Connection. Do not connect to these pins.", 25 NC "No Connection. Do not connect to these pins.", 30 NC "No Connection. Do not connect to these pins.", 31 NC "No Connection. Do not connect to these pins.", 35 NC "No Connection. Do not connect to these pins.", 38 NC "No Connection. Do not connect to these pins.", 40 NC "No Connection. Do not connect to these pins."

## AD5422BREZ
designator U?
Single 16-Bit Current Source Digital-to-Analog Converter with Serial Interface and HART Connectivity, -40 to +85 degC, RE-24, Pb-Free, Tube; Generic Part Number: AD5422; Manufacturer: Analog Devices; PartNumber: AD5422BREZ; # DAC Outputs: 1; Max V+: 40V; Op Pwr Diss: 158mW; Resolution (Bits): 16; Settling Time: 18µs; Single Supply: No; DatasheetVersion: Rev.E; PackageVersion: 050806-A; PackageReference: RE-24; PackageDescription: 24-Lead Thin Shrink Small Outline Package, Exposed Pad [TSSOP_EP]; Supplier 1: Digi-Key; Supplier Part Number 1: AD5422BREZ-ND; Supplier 2: Farnell; Supplier Part Number 2: 2067762; Supplier 3: Newark; Supplier Part Number 3: 11R1004; Supplier 4: Mouser; Supplier Part Number 4: 584-AD5422BREZ; Packing: Tube; RoHS: Y; Mounting Technology: Surface Mount; Code_JEDEC: MO-153-ADT; ComponentLink1Description: Manufacturer URL; ComponentLink1URL: http://www.analog.com/en/index.html; ComponentLink2Description: Datasheet; ComponentLink2URL: http://www.analog.com/static/imported-files/data_sheets/AD5412_5422.pdf; ComponentLink3Description: Package Specification; ComponentLink3URL: http://www.analog.com/static/imported-files/packages/PKG_PDF/TSSOP_EP(RE)/RE_24.pdf; ComponentLink4Description: Product URL; ComponentLink4URL: http://www.analog.com/en/digital-to-analog-converters/da-converters/ad5422/products/product.html; ComponentLink5Description: Reference Design URL; ComponentLink5URL: http://www.analog.com/en/digital-to-analog-converters/da-converters/ad5422/products/product.html#prod_cross_sell
footprint RE-24_N (TSOP, 24-Leads, Body 7.8x4.4mm, Pitch 0.65mm, Thermal pad 5.02x3.25 mm, IPC Medium Density)
footprint RE-24_L (TSOP, 24-Leads, Body 7.8x4.4mm, Pitch 0.65mm, Thermal pad 5.02x3.25 mm, IPC High Density)
footprint RE-24_M (TSOP, 24-Leads, Body 7.8x4.4mm, Pitch 0.65mm, Thermal pad 5.02x3.25 mm, IPC Low Density)
pins: 1 AVSS (power) "Negative Analog Supply Pin. Voltage ranges from -3 V to -24 V. This pin can be connected to 0 V if the output voltage range is unipolar.", 2 DVCC (power) "Digital Supply Pin. Voltage ranges from 2.7 V to 5.5 V.This pin can also be configured as a 4.5 V LDO output by leaving the DVCC SELECT pin floating.", 3 ~{FAULT} (oc) "Fault Alert. This pin is asserted low when an open circuit is detected in current mode or an overtemperature is detected. Open drain output must be connected to a pull-up resistor.", 4 GND (power) "This pin must be connected to 0 V.", 5 CLEAR SELECT (in) "Selects the voltage output clear value, either zero-scale or midscale code (see Table 21).", 6 CLEAR (in) "Active High Input. Asserting this pin sets the current output to the bottom of the selected range or sets the voltage output to the user selected value (zero-scale or midscale).", 7 LATCH (in) "Positive Edge Sensitive Latch. A rising LATCH edge parallel loads the input shift register data into the DAC register, also updating the output.", 8 SCLK (in) "Serial Clock Input. Data is clocked into the shift register on the rising edge of SCLK. This operates at clock speeds of up to 30 MHz.", 9 SDIN (in) "Serial Data Input. Data must be valid on the rising edge of SCLK.", 10 SDO (hiz) "Serial Data Output. Used to clock data from the serial register in daisy-chain or readback mode. Data is valid on the rising edge of SCLK (see Figure 3 and Figure 4).", 11 GND (power) "Ground Reference Pin.", 12 GND (power) "This pin must be connected to 0 V.", 13 RSET (in) "An external, precision, low drift 15 kohm current setting resistor can be connected to this pin to improve the IOUT temperature drift performance. See the AD5422 Features section.", 14 REFOUT (out) "Internal Reference Voltage Output. REFOUT = 5 V +/- 2 mV.", 15 REFIN (in) "External Reference Voltage Input. Reference input range is 4 V to 5 V. REFIN = 5 V for a specified performance.", 16 DVCC SELECT "When connected to GND, this pin disables the internal supply, and an external supply must be connected to the DVCC pin. Leave this pin unconnected to enable the internal supply. See the AD5422 Features section.", 17 CCOMP "Optional compensation capacitor connection for the voltage output buffer. Connecting a 4 nF capacitor between this pin and the VOUT pin allows the voltage output to drive up to 1 µF. It should be noted that the addition of (See Datasheet)", 18 NC "No Connection. Do not connect to these pins.", 19 IOUT (hiz) "Current Output Pin.", 20 BOOST "Optional External Transistor Connection. Connecting an external transistor reduces the power dissipated in the AD5422. See the AD5422 Features section.", 21 VOUT (hiz) "Buffered Analog Output Voltage. The output amplifier is capable of directly driving a 1 k ohm, 2000 pF load.", 22 +VSENSE (in) "Sense connection for the positive voltage output load connection.", 23 -VSENSE (in) "Sense connection for the negative voltage output load connection.", 24 AVDD (power) "Positive Analog Supply Pin. Voltage ranges from 10.8 V to 60 V.", 25 EP "Negative Analog Supply Pin. Voltage ranges from -3 V to -24 V. This paddle can be connected to 0 V if the output voltage range is unipolar. The paddle can be left electrically unconnected provided that a supply connection is (See Datasheet)"

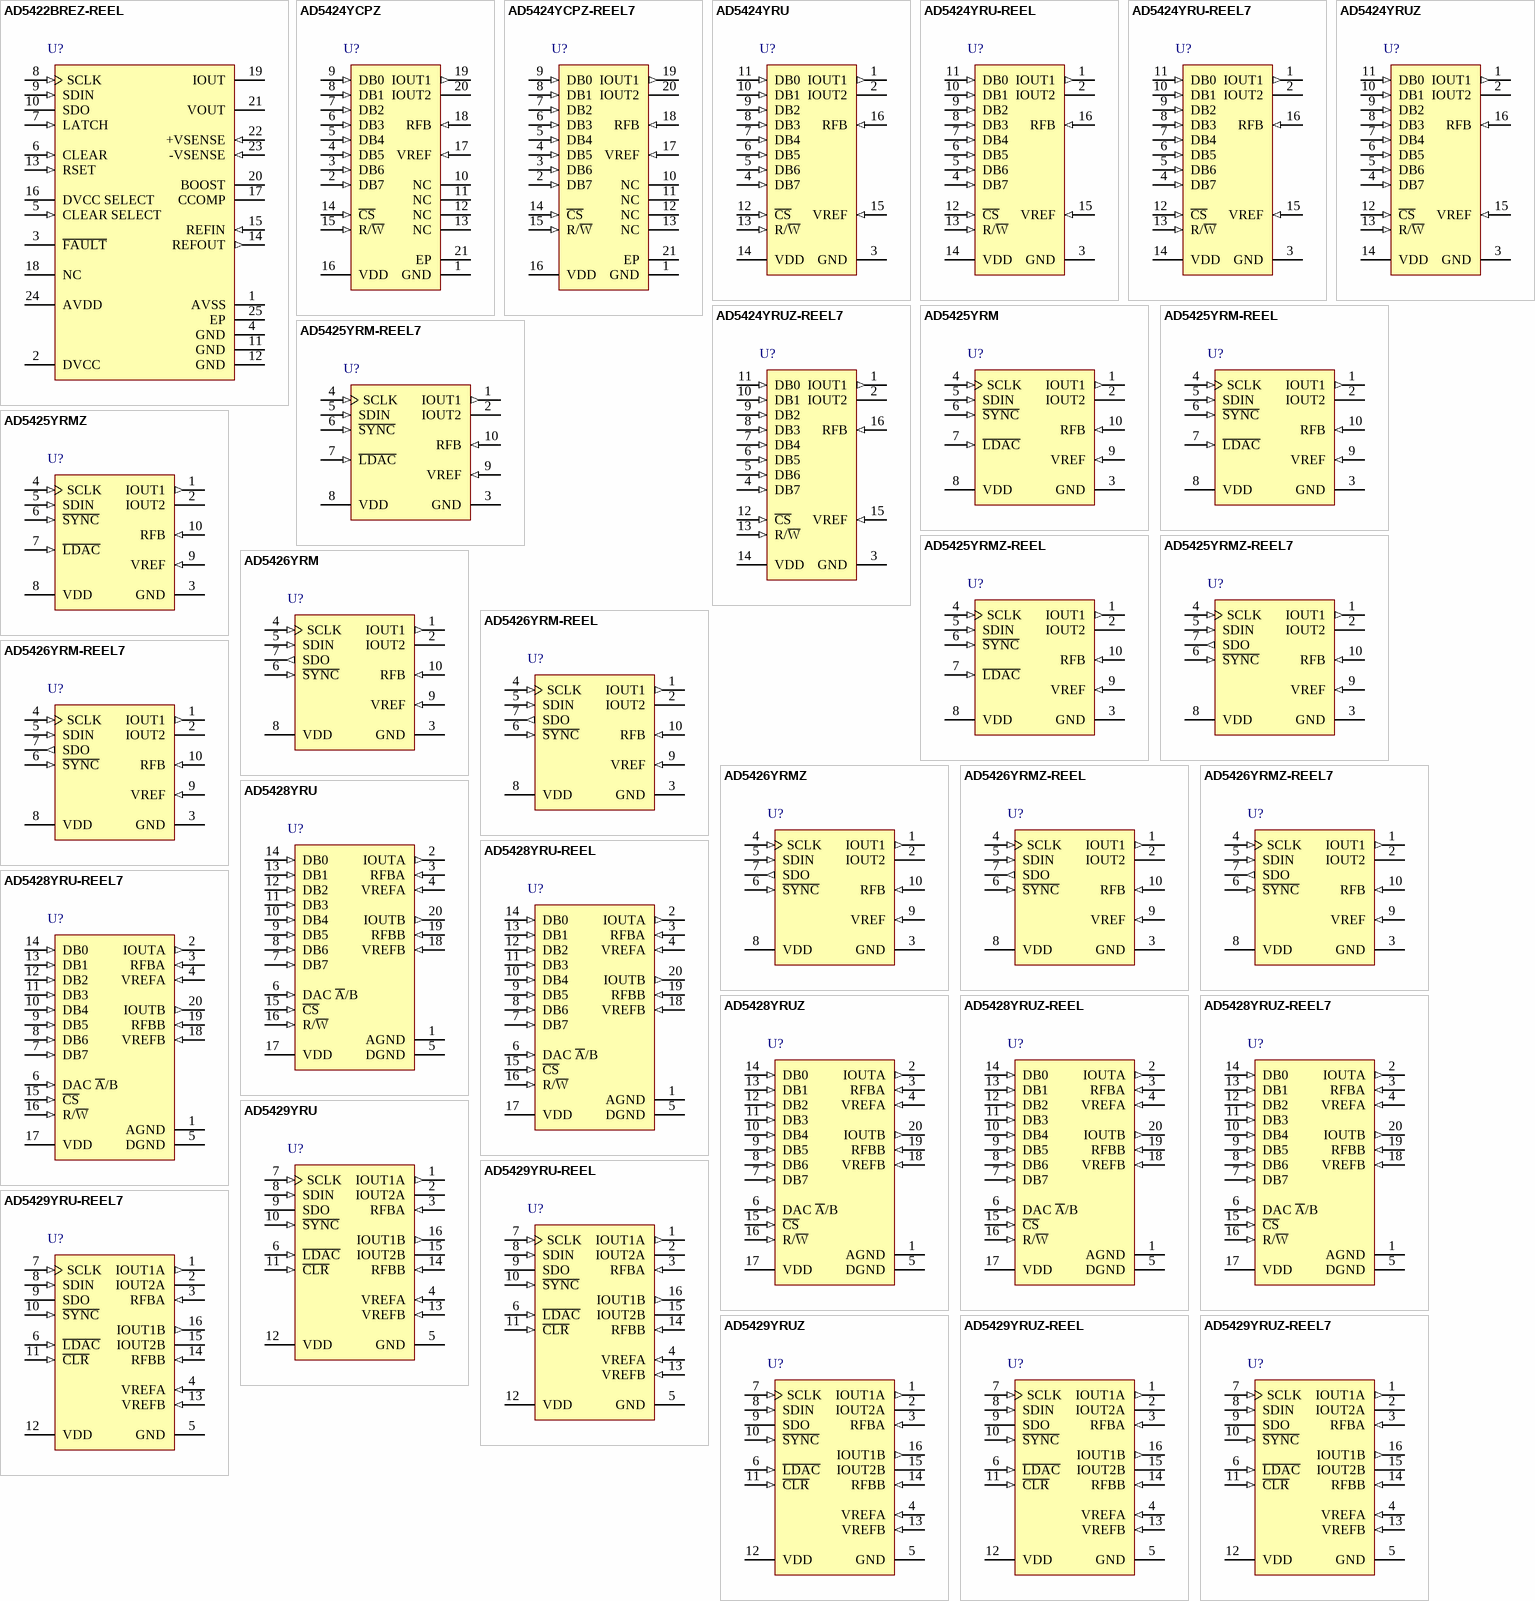
[diagram p31: symbols AD5422BREZ-REEL to AD5429YRUZ-REEL7]